# Altium footprint library FAN53528DUC40X.PcbLib: 2 footprints
Each footprint in its own frame and in the unit in brackets; x right, y up, seen from the top. Pads: shape width x height; smd on the part's side, far side on the other; paste and mask are expansions set on the pad; w line width, h text height; cw(c..) or ccw(c..) is an arc to the next point about the centre after c.
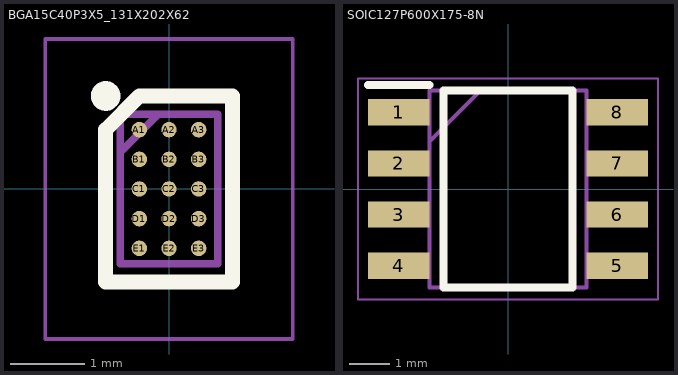
[diagram p0: the footprints below, top view; thin cyan lines are the x and y axes]

## BGA15C40P3X5_131X202X62 [mm]
pads (15):
  round 0.208 smd: A1(-0.4,0.8) A2(0,0.8) A3(0.4,0.8) B1(-0.4,0.4) B2(0,0.4) B3(0.4,0.4) C1(-0.4,0) C2(0,0) C3(0.4,0) D1(-0.4,-0.4) D2(0,-0.4) D3(0.4,-0.4) E1(-0.4,-0.8) E2(0,-0.8) E3(0.4,-0.8)
Top Overlay:
  circle w0.2: c-0.854,1.254 r0.1
  lines w0.2: -0.854,-1.254 -0.854,0.8 -0.4,1.254 0.854,1.254 0.854,-1.254 -0.854,-1.254
Mechanical 13:
  lines w0.1: -0.655,0.496 -0.144,1.007 ; -0.655,-1.007 -0.655,1.008 0.655,1.008 0.655,-1.007 -0.655,-1.007
Mechanical 15:
  lines w0.05: -1.67,-2.023 -1.67,2.022 1.67,2.022 1.67,-2.023 -1.67,-2.023
3D body "FAN53528DUC40X.stp": height 0.63, standoff 0, extent -0.655,-1.008 0.655,1.008

## SOIC127P600X175-8N [mm]
pads (8):
  rect 1.525x0.65 smd: 1(-2.712,1.905) 2(-2.712,0.635) 3(-2.712,-0.635) 4(-2.712,-1.905) 5(2.712,-1.905) 6(2.712,-0.635) 7(2.712,0.635) 8(2.712,1.905)
Top Overlay:
  lines w0.2: -3.475,2.58 -1.95,2.58 ; -1.6,-2.45 1.6,-2.45 1.6,2.45 -1.6,2.45 -1.6,-2.45
Mechanical 13:
  lines w0.1: -1.95,1.18 -0.68,2.45 ; -1.95,-2.45 1.95,-2.45 1.95,2.45 -1.95,2.45 -1.95,-2.45
Mechanical 15:
  lines w0.05: -3.725,-2.75 3.725,-2.75 3.725,2.75 -3.725,2.75 -3.725,-2.75
3D body "NE555DR.stp": height 1.75, standoff 0, extent -3,-2.45 3,2.45